# Altium footprint library PCB - FERRITE - CHIP - FER 0402_1005.PCBLIB: 1 footprints
Each footprint in its own frame and in the unit in brackets; x right, y up, seen from the top. Pads: shape width x height; smd on the part's side, far side on the other; paste and mask are expansions set on the pad; w line width, h text height; cw(c..) or ccw(c..) is an arc to the next point about the centre after c.
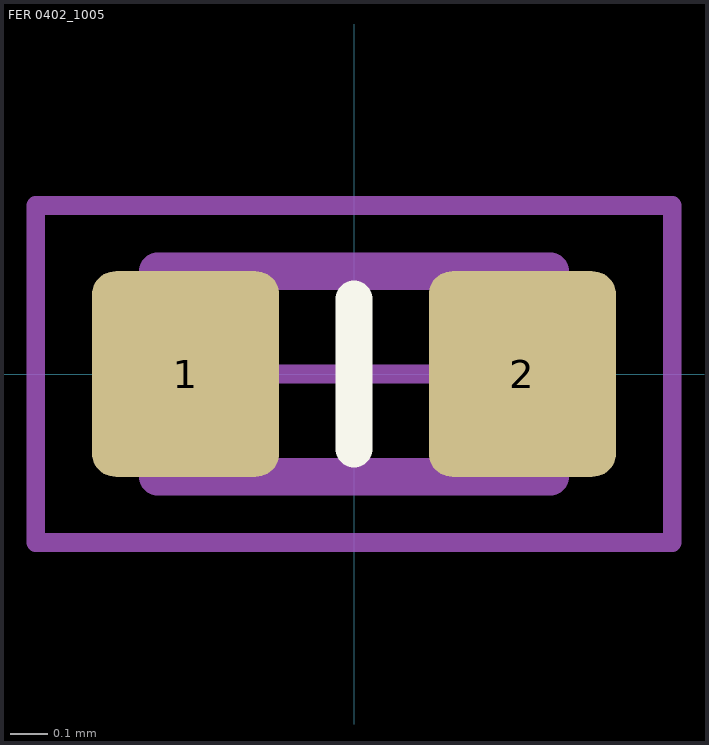
[diagram p0: the footprint, top view; thin cyan lines are the x and y axes]

## FER 0402_1005 [mm] "Chip Ferrite, 2-Leads, Body 1.02x0.51mm, IPC Medium Density"
height 0.52
pads (2):
  rrect25% 0.5x0.55 smd: 1(-0.45,0) 2(0.45,0)
Top Overlay:
  lines w0.1: 0,-0.2 0,0.2
Top Courtyard:
  lines w0.05: -0.85,-0.45 -0.85,0.45 0.85,0.45 0.85,-0.45 -0.85,-0.45
Top Component Center:
  lines w0.05: -0.275,0 0.275,0 ; 0,-0.275 0,0.275
Top Assembly:
  lines w0.1: -0.525,-0.275 -0.525,0.275 0.525,0.275 0.525,-0.275 -0.525,-0.275
  text ".Designator" at -2.253,0.605 h1
3D body "RES0402.step": height 0.3, standoff 0, extent -0.5,-0.25 0.5,0.25